# EAGLE library part DIP8_PANEL (library _motovilo)
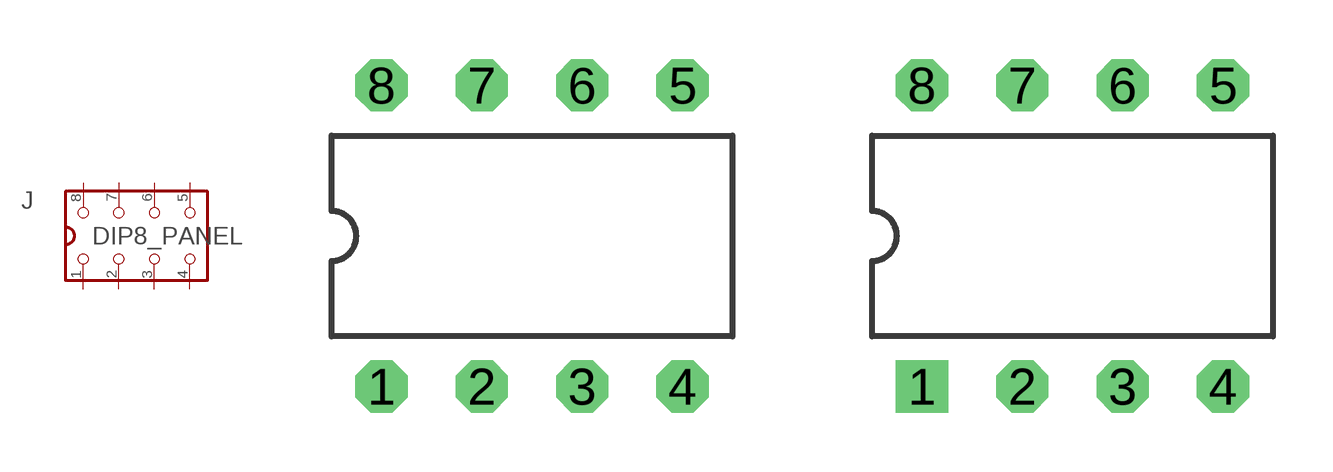
[diagram p13: symbol with the pads of DIL08; footprints DIL08, DIL08_]

Designator prefix J

## DIP8_PANELLONGPADS  [DIL08]
1  1  pas
2  2  pas
3  3  pas
4  4  pas
5  5  pas
6  6  pas
7  7  pas
8  8  pas

## DIP8_PANELROUNDPADS  [DIL08_]
Pads as for DIL08

## Footprint DIL08 (pad centres in mm)
Dual In Line package type P
drill 0.813 octagon: 1 -3.81,-3.81; 2 -1.27,-3.81; 3 1.27,-3.81; 4 3.81,-3.81; 5 3.81,3.81; 6 1.27,3.81; 7 -1.27,3.81; 8 -3.81,3.81

## Footprint DIL08_ (pad centres in mm)
Dual In Line package type P
drill 0.813 square: 1 -3.81,-3.81
drill 0.813 octagon: 2 -1.27,-3.81; 3 1.27,-3.81; 4 3.81,-3.81; 5 3.81,3.81; 6 1.27,3.81; 7 -1.27,3.81; 8 -3.81,3.81